# EAGLE library part 39281063 (library Minifit Jr 2x3)
Conn Wire to Board HDR 6Power POS 4.2mm Solder ST Top Entry Thru-Hole Mini-Fit Jr Bag Check availability <https://pricing.snapeda.com/parts/39-28-1063/Molex/view-part?ref=eda>
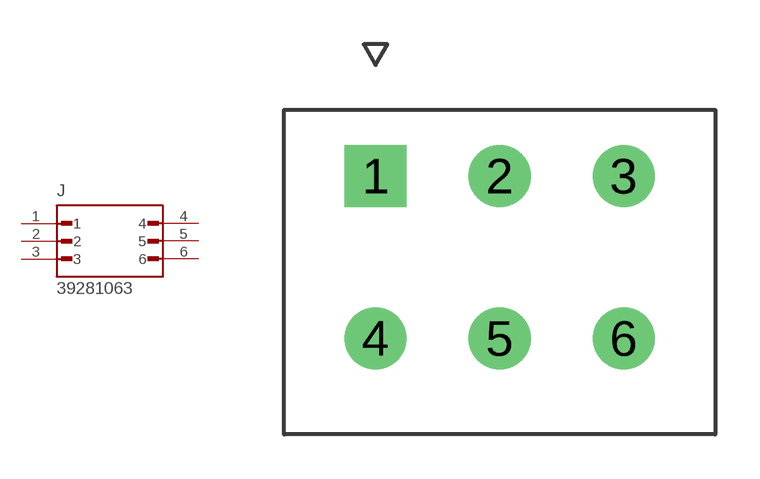
[diagram p0: symbol with the pads of MOLEX_39281063; footprint MOLEX_39281063]

Designator prefix J

## 39281063 (Availability: In Stock; Check_prices: https://www.snapeda.com/parts/39-28-1063/Molex/view-part/?ref=eda; Description: Header; Wire to Board; PCB Plug; 6 Cont; Thru-Hole; Mini-Fit Jr./5566 Series; Natural; MF: Molex; MP: 39-28-1063; Package: None; Price: None; SnapEDA_Link: https://www.snapeda.com/parts/39-28-1063/Molex/view-part/?ref=snap)  [MOLEX_39281063]
1  1  pas
2  2  pas
3  3  pas
4  4  pas
5  5  pas
6  6  pas

## Footprint MOLEX_39281063 (pad centres in mm)
drill 1.4 pad 1.9 square: 1 0,0
drill 1.4 pad 1.9: 2 4.2,0; 3 8.4,0; 4 0,-5.5; 5 4.2,-5.5; 6 8.4,-5.5